# Altium footprint library Footprints.PcbLib: 132 footprints (part 8 of 9)
Each footprint in its own frame and in the unit in brackets; x right, y up, seen from the top. Pads: shape width x height; smd on the part's side, far side on the other; paste and mask are expansions set on the pad; w line width, h text height; cw(c..) or ccw(c..) is an arc to the next point about the centre after c.
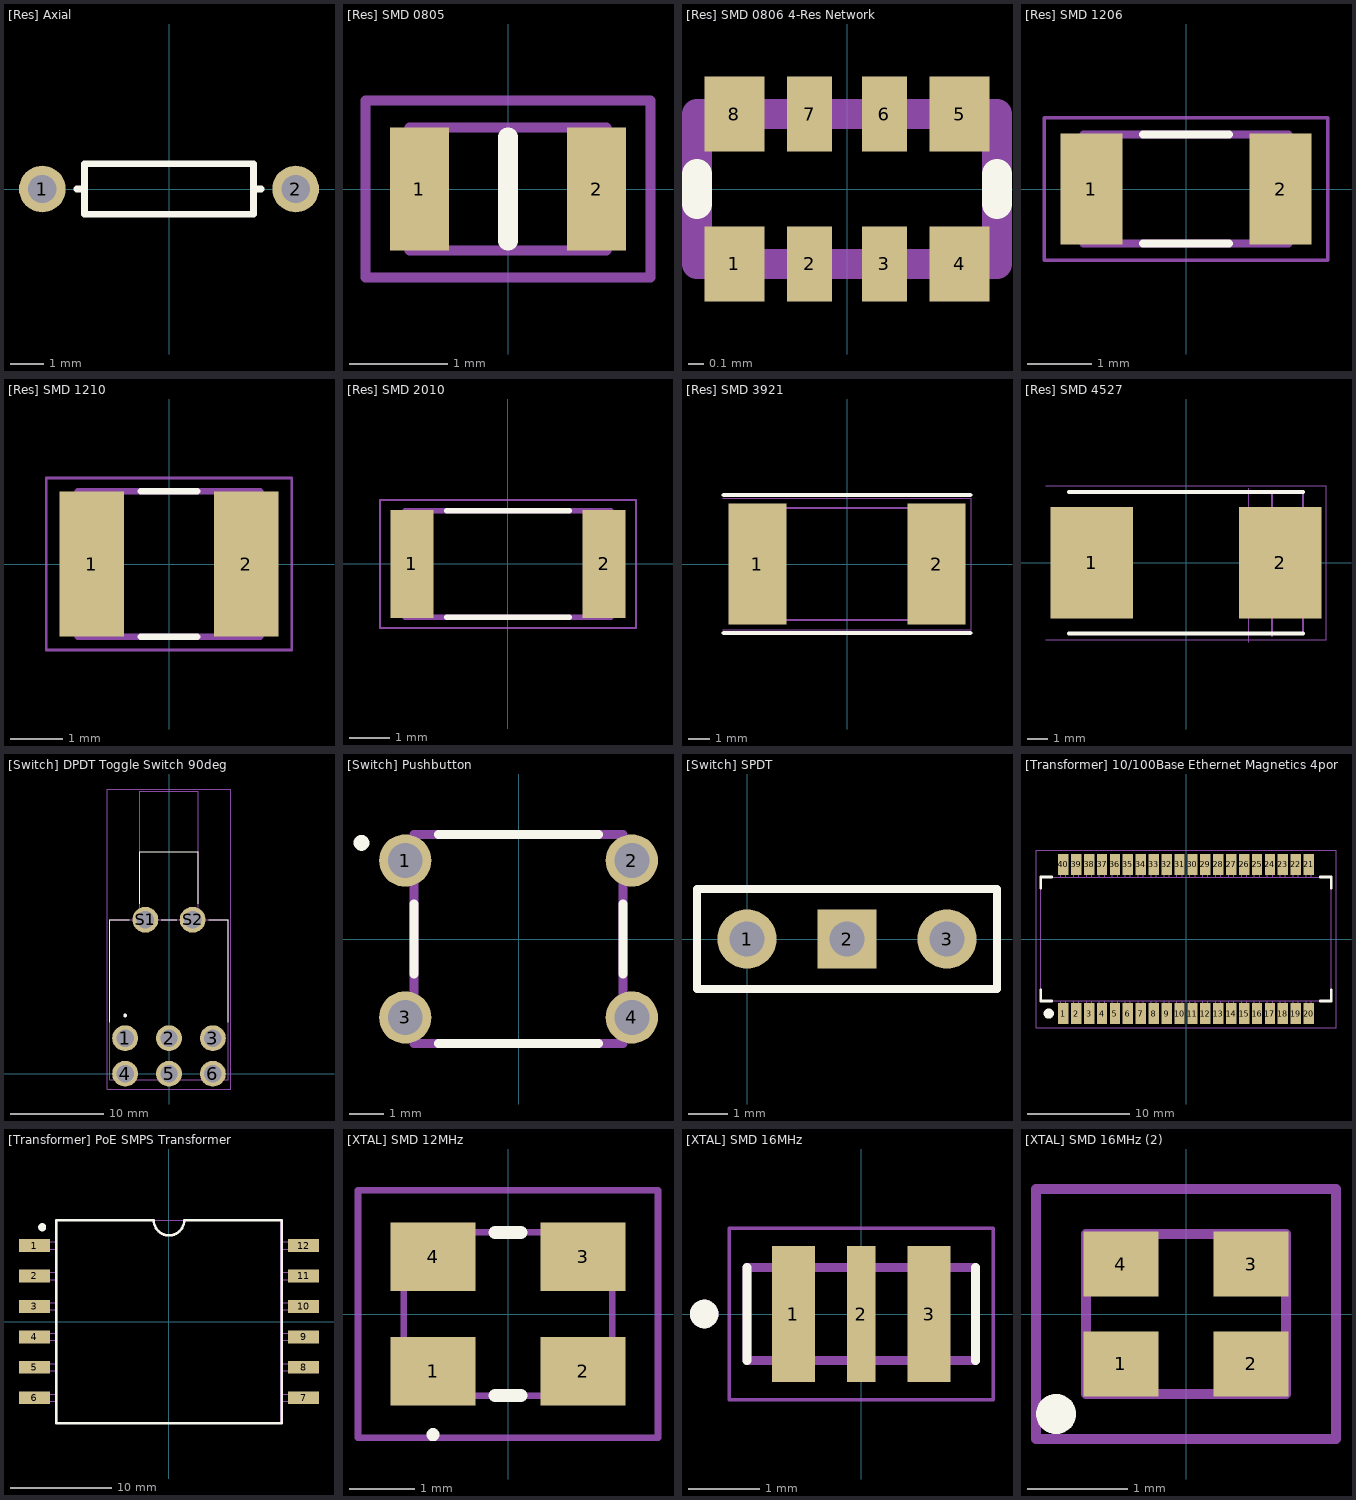
[diagram p7: the footprints below, top view; thin cyan lines are the x and y axes]

## [Res] Axial [mm]
pads (2):
  round 1.4 hole 0.85: 1(-3.81,0) 2(3.81,0)
Top Overlay:
  lines w0.2: -2.769,0 -2.54,0 ; 2.769,0 2.54,0 ; 2.54,0 2.54,-0.762 -2.54,-0.762 -2.54,0.762 2.54,0.762 2.54,0
3D body "Axial Resistor.step": height 3.2, standoff -1, extent -4.11,-1.198 4.11,1.198

## [Res] SMD 0805 [mm]
pads (2):
  rect 0.6x1.25 smd: 1(-0.9,0) 2(0.9,0)
Top Overlay:
  lines w0.2: 0,-0.525 0,0.525
Physical Outline:
  lines w0.1: -1,-0.625 1,-0.625 1,0.625 -1,0.625 -1,-0.625
Part Border:
  lines w0.1: -1.45,-0.9 -1.45,0.9 1.45,0.9 1.45,-0.9 -1.45,-0.9
3D body "SMD Resistor [0805].STEP": height 0.5, standoff 0, extent -1,-0.625 1,0.625

## [Res] SMD 0806 4-Res Network [mm]
pads (8):
  rect 0.4x0.5 smd: 1(-0.75,-0.5) 4(0.75,-0.5) 5(0.75,0.5) 8(-0.75,0.5)
  rect 0.3x0.5 smd: 2(-0.25,-0.5) 3(0.25,-0.5) 6(0.25,0.5) 7(-0.25,0.5)
Top Overlay:
  lines w0.2: -1,-0.1 -1,0.1 ; 1,-0.1 1,0.1
Physical Outline:
  lines w0.2: -1,-0.5 1,-0.5 1,0.5 -1,0.5 -1,-0.5
3D body "CAY10-331J4LF.stp": height 0.34, standoff 0, extent -1,-0.5 1,0.5

## [Res] SMD 1206 [mm]
pads (2):
  rect 0.97x1.73 smd: 1(-1.48,0) 2(1.48,0)
Top Overlay:
  lines w0.127: -0.67,-0.85 0.67,-0.85 ; -0.67,0.85 0.67,0.85
Physical Outline:
  lines w0.127: -1.6,-0.85 -1.6,0.85 1.6,0.85 1.6,-0.85 -1.6,-0.85
Part Border:
  lines w0.05: -2.215,-1.115 -2.215,1.115 2.215,1.115 2.215,-1.115 -2.215,-1.115
3D body "SMD Resistor [1206].STEP": height 0.65, standoff 0, extent -1.55,-0.8 1.55,0.8

## [Res] SMD 1210 [mm]
pads (2):
  rect 1.23x2.76 smd: 1(-1.466,0) 2(1.466,0)
Top Overlay:
  lines w0.127: -0.53,-1.38 0.53,-1.38 ; -0.53,1.38 0.53,1.38
Physical Outline:
  lines w0.127: -1.73,-1.38 -1.73,1.38 1.73,1.38 1.73,-1.38 -1.73,-1.38
Part Border:
  lines w0.05: -2.331,-1.631 -2.331,1.631 2.331,1.631 2.331,-1.631 -2.331,-1.631
3D body "SMD Resistor [1210].STEP": height 0.6, standoff 0, extent -1.6,-1.25 1.6,1.25

## [Res] SMD 2010 [mm]
pads (2):
  rect 1.07x2.67 smd: 1(-2.38,0) 2(2.38,0)
Top Overlay:
  lines w0.127: -1.52,-1.32 1.52,-1.32 ; -1.52,1.32 1.52,1.32
Physical Outline:
  lines w0.127: -2.55,-1.32 -2.55,1.32 2.55,1.32 2.55,-1.32 -2.55,-1.32
Part Border:
  lines w0.05: -3.165,-1.585 -3.165,1.585 3.165,1.585 3.165,-1.585 -3.165,-1.585
3D body "SMD Resistor [2010].STEP": height 0.65, standoff 0, extent -2.5,-1.25 2.5,1.25

## [Res] SMD 3921 [mm]
pads (2):
  rect 2.7x5.6 smd: 1(-4.15,0) 2(4.15,0)
Top Overlay:
  lines w0.2: -5.715,-3.2 5.715,-3.2 ; -5.715,3.2 5.715,3.2
Physical Outline:
  lines w0.1: -5,-2.6 5,-2.6 5,2.6 -5,2.6 -5,-2.6
Part Border:
  lines w0.05: -5.75,-3.05 5.75,-3.05 5.75,3.05 -5.75,3.05
3D body "WSL3921L2000FEA.stp": height 1.8, standoff 0, extent -5,-2.6 5,2.6

## [Res] SMD 4527 [mm]
pads (2):
  rect 4.05x5.5 smd: 1(-4.65,0) 2(4.65,0)
Top Overlay:
  lines w0.2: -5.78,-3.49 5.78,-3.49 ; -5.78,3.49 5.78,3.49
Physical Outline:
  lines w0.1: -5.78,-3.49 5.78,-3.49 5.78,3.49 -5.78,3.49 ; 4.253,-3.617 4.253,3.363
Part Border:
  lines w0.05: -6.925,-3.804 6.925,-3.804 6.925,3.804 -6.925,3.804 ; 3.108,-3.931 3.108,3.677
3D body "WSR5R0500FEA.stp": height 2.54, standoff 0, extent -5.78,-3.49 5.78,3.49

## [Switch] DPDT Toggle Switch 90deg [mm] "100DP1T2B4M6QE"
pads (8):
  round 2.775 hole 1.85: 1(-4.7,3.81) 2(0,3.81) 3(4.7,3.81) 4(-4.7,0) 5(0,0) 6(4.7,0) S1(-2.54,16.51) S2(2.54,16.51)
Top Overlay:
  circle w0.2: c-4.7,6.25 r0.1
  lines w0.127: -6.35,5.517 -6.35,16.51 -4.247,16.51 ; -3.11,18.217 -3.11,23.82 3.11,23.82 3.11,18.217 ; -0.833,16.51 0.833,16.51 ; 4.247,16.51 6.35,16.51 6.35,5.517
Physical Outline:
  lines w0.127: -3.11,16.51 -3.11,30.28 3.11,30.28 3.11,16.51 ; -3.11,16.51 3.11,16.51 ; -3.11,16.51 -6.35,16.51 -6.35,-0.635 6.35,-0.635 6.35,16.51 3.11,16.51
Part Border:
  lines w0.1: -6.6,-1.637 6.6,-1.637 6.6,30.53 -6.6,30.53 -6.6,-1.637
3D body "step_temp.STEP": height 11.43, standoff -3.17, extent -6.35,-0.635 6.35,30.632

## [Switch] Pushbutton [mm] "(Regular pushbutton)"
pads (4):
  round 1.5 hole 1: 1(-3.25,2.25) 2(3.25,2.25) 3(-3.25,-2.25) 4(3.25,-2.25)
Top Overlay:
  circle w0.254: c-4.504,2.757 r0.099
  lines w0.254: -2.995,-1 -2.995,1 ; -2.3,-2.995 2.3,-2.995 ; -2.3,2.995 2.3,2.995 ; 2.995,-1 2.995,1
Physical Outline:
  lines w0.254: -2.995,-2.995 -2.995,2.995 2.995,2.995 2.995,-2.995 -2.995,-2.995
3D body "Pushbutton.STEP": height 4.95, standoff -3.38, extent -3.846,-3.004 3.846,3.004

## [Switch] SPDT [mm]
pads (3):
  round 1.5 hole 0.9: 1(0,0) 3(5.08,0)
  rect 1.5x1.5 hole 0.9: 2(2.54,0)
Top Overlay:
  lines w0.2: -1.27,-1.27 -1.27,1.27 6.35,1.27 6.35,-1.27 -1.27,-1.27
3D body "SPDT Switch.STEP": height 7.15, standoff -3.45, extent -1.71,-1.85 6.79,1.85

## [Transformer] 10/100Base Ethernet Magnetics 4port [mm] "H1164NL"
pads (40):
  rect 1.02x2.095 smd: 1(-12.065,-7.332) 2(-10.795,-7.332) 3(-9.525,-7.332) 4(-8.255,-7.332) 5(-6.985,-7.332) 6(-5.715,-7.332) 7(-4.445,-7.332) 8(-3.175,-7.332) 9(-1.905,-7.332) 10(-0.635,-7.332) 11(0.635,-7.332) 12(1.905,-7.332) 13(3.175,-7.332) 14(4.445,-7.332) 15(5.715,-7.332) 16(6.985,-7.332) 17(8.255,-7.332) 18(9.525,-7.332) 19(10.795,-7.332) 20(12.065,-7.332) 21(12.065,7.332) 22(10.795,7.332) 23(9.525,7.332) 24(8.255,7.332) 25(6.985,7.332) 26(5.715,7.332) 27(4.445,7.332) 28(3.175,7.332) 29(1.905,7.332) 30(0.635,7.332) 31(-0.635,7.332) 32(-1.905,7.332) 33(-3.175,7.332) 34(-4.445,7.332) 35(-5.715,7.332) 36(-6.985,7.332) 37(-8.255,7.332) 38(-9.525,7.332) 39(-10.795,7.332) 40(-12.065,7.332)
Top Overlay:
  circle w0.5: c-13.5,-7.332 r0.25
  lines w0.254: -14.29,-5 -14.29,-6.095 -13.195,-6.095 ; -14.29,5 -14.29,6.095 -13.195,6.095 ; 13.195,-6.095 14.29,-6.095 14.29,-5 ; 13.195,6.095 14.29,6.095 14.29,5
Physical Outline:
  lines w0.1: -12.32,-6.095 -12.32,-7.235 -11.81,-7.235 -11.81,-6.095 ; -12.32,6.095 -12.32,7.235 -11.81,7.235 -11.81,6.095 ; -11.05,-6.095 -11.05,-7.235 -10.54,-7.235 -10.54,-6.095 ; -11.05,6.095 -11.05,7.235 -10.54,7.235 -10.54,6.095 ; -9.78,-6.095 -9.78,-7.235 -9.27,-7.235 -9.27,-6.095 ; -9.78,6.095 -9.78,7.235 -9.27,7.235 -9.27,6.095 ; -8.51,-6.095 -8.51,-7.235 -8,-7.235 -8,-6.095 ; -8.51,6.095 -8.51,7.235 -8,7.235 -8,6.095 ; -7.24,-6.095 -7.24,-7.235 -6.73,-7.235 -6.73,-6.095 ; -7.24,6.095 -7.24,7.235 -6.73,7.235 -6.73,6.095 ; -5.97,-6.095 -5.97,-7.235 -5.46,-7.235 -5.46,-6.095 ; -5.97,6.095 -5.97,7.235 -5.46,7.235 -5.46,6.095 ; -4.7,-6.095 -4.7,-7.235 -4.19,-7.235 -4.19,-6.095 ; -4.7,6.095 -4.7,7.235 -4.19,7.235 -4.19,6.095 ; -3.43,-6.095 -3.43,-7.235 -2.92,-7.235 -2.92,-6.095 ; -3.43,6.095 -3.43,7.235 -2.92,7.235 -2.92,6.095 ; -2.16,-6.095 -2.16,-7.235 -1.65,-7.235 -1.65,-6.095 ; -2.16,6.095 -2.16,7.235 -1.65,7.235 -1.65,6.095 ; -0.89,-6.095 -0.89,-7.235 -0.38,-7.235 -0.38,-6.095 ; -0.89,6.095 -0.89,7.235 -0.38,7.235 -0.38,6.095 ; 0.38,-6.095 0.38,-7.235 0.89,-7.235 0.89,-6.095 ; 0.38,6.095 0.38,7.235 0.89,7.235 0.89,6.095 ; 1.65,-6.095 1.65,-7.235 2.16,-7.235 2.16,-6.095 ; 1.65,6.095 1.65,7.235 2.16,7.235 2.16,6.095 ; 2.92,-6.095 2.92,-7.235 3.43,-7.235 3.43,-6.095 ; 2.92,6.095 2.92,7.235 3.43,7.235 3.43,6.095 ; 4.19,-6.095 4.19,-7.235 4.7,-7.235 4.7,-6.095 ; 4.19,6.095 4.19,7.235 4.7,7.235 4.7,6.095 ; 5.46,-6.095 5.46,-7.235 5.97,-7.235 5.97,-6.095 ; 5.46,6.095 5.46,7.235 5.97,7.235 5.97,6.095 ; 6.73,-6.095 6.73,-7.235 7.24,-7.235 7.24,-6.095 ; 6.73,6.095 6.73,7.235 7.24,7.235 7.24,6.095 ; 8,-6.095 8,-7.235 8.51,-7.235 8.51,-6.095 ; 8,6.095 8,7.235 8.51,7.235 8.51,6.095 ; 9.27,-6.095 9.27,-7.235 9.78,-7.235 9.78,-6.095 ; 9.27,6.095 9.27,7.235 9.78,7.235 9.78,6.095 ; 10.54,-6.095 10.54,-7.235 11.05,-7.235 11.05,-6.095 ; 10.54,6.095 10.54,7.235 11.05,7.235 11.05,6.095 ; 11.81,-6.095 11.81,-7.235 12.32,-7.235 12.32,-6.095 ; 11.81,6.095 11.81,7.235 12.32,7.235 12.32,6.095 ; -14.29,-6.095 -14.29,6.095 14.29,6.095 14.29,-6.095 -14.29,-6.095
Part Border:
  lines w0.1: -14.75,-8.75 -14.75,8.75 14.75,8.75 14.75,-8.75 -14.75,-8.75
3D body "[Transformer] 10_100Base Ethernet Magnetics 4port.STEP": height 5.71, standoff -0.01, extent -14.224,-8.001 14.224,8.001

## [Transformer] PoE SMPS Transformer [mm] "750313355"
pads (12):
  rect 3.05x1.27 smd: 1(-13.26,7.5) 2(-13.26,4.5) 3(-13.26,1.5) 4(-13.26,-1.5) 5(-13.26,-4.5) 6(-13.26,-7.5) 7(13.26,-7.5) 8(13.26,-4.5) 9(13.26,-1.5) 10(13.26,1.5) 11(13.26,4.5) 12(13.26,7.5)
Top Overlay:
  circle w0.4: c-12.5,9.3 r0.2
  lines w0.254: -11.1,-10 -11.1,10 -1.5,10 ccw(c0,10) 1.5,10 11.1,10 11.1,-10 -11.1,-10
Physical Outline:
  lines w0.1: -11,-7.85 -14.54,-7.85 -14.54,-7.15 -11,-7.15 ; -11,-4.85 -14.54,-4.85 -14.54,-4.15 -11,-4.15 ; -11,-1.85 -14.54,-1.85 -14.54,-1.15 -11,-1.15 ; -11,1.15 -14.54,1.15 -14.54,1.85 -11,1.85 ; -11,4.15 -14.54,4.15 -14.54,4.85 -11,4.85 ; 11,-7.85 14.54,-7.85 14.54,-7.15 11,-7.15 ; 11,-4.85 14.54,-4.85 14.54,-4.15 11,-4.15 ; 11,-1.85 14.54,-1.85 14.54,-1.15 11,-1.15 ; 11,1.15 14.54,1.15 14.54,1.85 11,1.85 ; 11,4.15 14.54,4.15 14.54,4.85 11,4.85 ; 11,7.15 14.54,7.15 14.54,7.85 11,7.85 ; -11,7.15 -14.54,7.15 -14.54,7.85 -11,7.85 ; -11,7.15 -11,-10 11,-10 11,10 -11,10 -11,7.85 ; -11,7.15 -11,7.85
3D body "PoE Transformer 750313355.STEP": height 10.67, standoff 0, extent -14.325,-10 14.325,10

## [XTAL] SMD 12MHz [mm]
pads (4):
  rect 1.3x1.05 smd: 1(-1.15,-0.875) 2(1.15,-0.875) 3(1.15,0.875) 4(-1.15,0.875)
Top Overlay:
  lines w0.1: -1.15,-1.9 cw(c-1.15,-1.85) -1.15,-1.8 cw(c-1.15,-1.85) -1.15,-1.9
  lines w0.2: -0.2,-1.25 0.2,-1.25 ; -0.2,1.25 0.2,1.25
Physical Outline:
  lines w0.1: -1.6,-1.25 -1.6,1.25 1.6,1.25 1.6,-1.25 -1.6,-1.25
Part Border:
  lines w0.1: -2.3,-1.9 -2.3,1.9 2.3,1.9 2.3,-1.9 -2.3,-1.9
3D body "ABM8-272-T3.stp": height 0.75, standoff 0, extent -1.6,-1.25 1.6,1.25

## [XTAL] SMD 16MHz [mm] "CSTCE16M0V53-R0"
pads (3):
  rect 0.6x1.9 smd: 1(-0.95,0) 3(0.95,0)
  rect 0.4x1.9 smd: 2(0,0)
Top Overlay:
  circle w0.2: c-2.2,0 r0.1
  lines w0.127: -1.6,-0.65 -1.6,0.65 ; 1.6,-0.65 1.6,0.65
Physical Outline:
  circle w0.2: c-2.2,0 r0.1
  lines w0.127: -1.6,-0.65 1.6,-0.65 1.6,0.65 -1.6,0.65 -1.6,-0.65
Part Border:
  lines w0.05: -1.85,-1.2 1.85,-1.2 1.85,1.2 -1.85,1.2 -1.85,-1.2
3D body "SMD 16MHz Oscillator (CSTCE16M0V53-R0).STEP": height 1, standoff 0, extent -1.6,-0.65 1.6,0.65

## [XTAL] SMD 16MHz (2) [mm] "ABM11-16.000MHZ-12-N1G-T"
pads (4):
  rect 0.75x0.65 smd: 1(-0.65,-0.5) 2(0.65,-0.5) 3(0.65,0.5) 4(-0.65,0.5)
Top Overlay:
  circle w0.2: c-1.3,-1 r0.1
Physical Outline:
  lines w0.1: -1,-0.8 -1,0.8 1,0.8 1,-0.8 -1,-0.8
Part Border:
  lines w0.1: -1.5,-1.25 1.5,-1.25 1.5,1.25 -1.5,1.25 -1.5,-1.25
3D body "ABM11-16.000MHZ-12-N1G-T.stp": height 0.69, standoff 0, extent -1,-0.8 1,0.8